# Altium footprint library CM5441Z161B-10.PcbLib: 1 footprints
Each footprint in its own frame and in the unit in brackets; x right, y up, seen from the top. Pads: shape width x height; smd on the part's side, far side on the other; paste and mask are expansions set on the pad; w line width, h text height; cw(c..) or ccw(c..) is an arc to the next point about the centre after c.
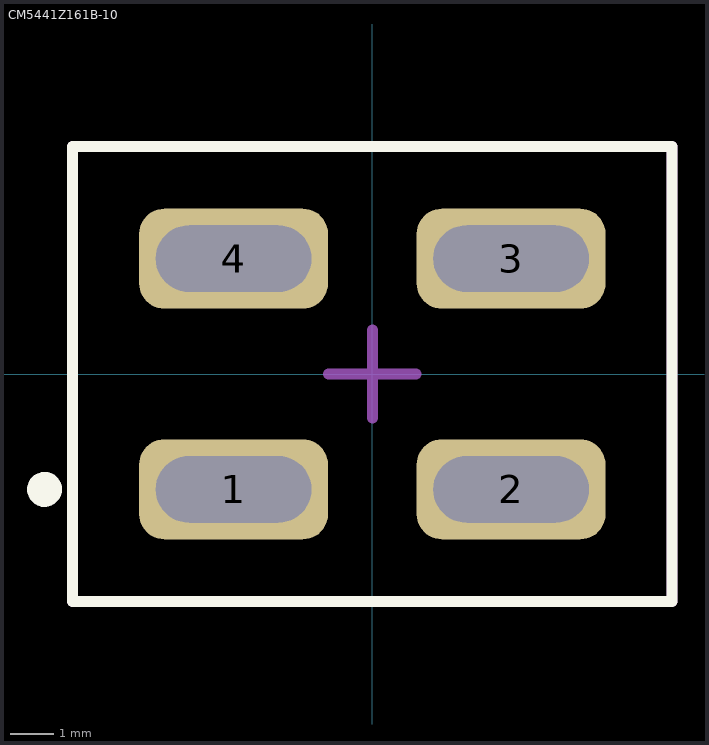
[diagram p0: the footprint, top view; thin cyan lines are the x and y axes]

## CM5441Z161B-10 [mm]
pads (4):
  rrect50% 4.32x2.29 hole 1.52 slot 3.56 at 0 deg paste-2539.97 mask+0: 1(-3.175,-2.64) 2(3.175,-2.64) 3(3.175,2.64) 4(-3.175,2.64)
Top Overlay:
  circle w0.4: c-7.5,-2.64 r0.2
  lines w0.254: -6.86,-5.205 -6.86,5.205 6.86,5.205 6.86,-5.205 -6.86,-5.205
Top Designator:
  text ".Designator" at -7.618,-0.508 h1.52
3D Body:
  lines w0.254: -6.86,-5.205 6.86,-5.205 6.86,5.205 -6.86,5.205 -6.86,-5.205
Center Cross (Mech15):
  lines w0.254: -1,0 0,0 ; 0,-1 0,0 ; 0,1 0,0 ; 1,0 0,0
3D body "CM5441Z161B-10.step": height 15.5, standoff -3.37, extent -6.86,-5.205 6.86,5.205